# Altium footprint library COLVEN.PcbLib: 24 footprints (part 1 of 2)
Each footprint in its own frame and in the unit in brackets; x right, y up, seen from the top. Pads: shape width x height; smd on the part's side, far side on the other; paste and mask are expansions set on the pad; w line width, h text height; cw(c..) or ccw(c..) is an arc to the next point about the centre after c.
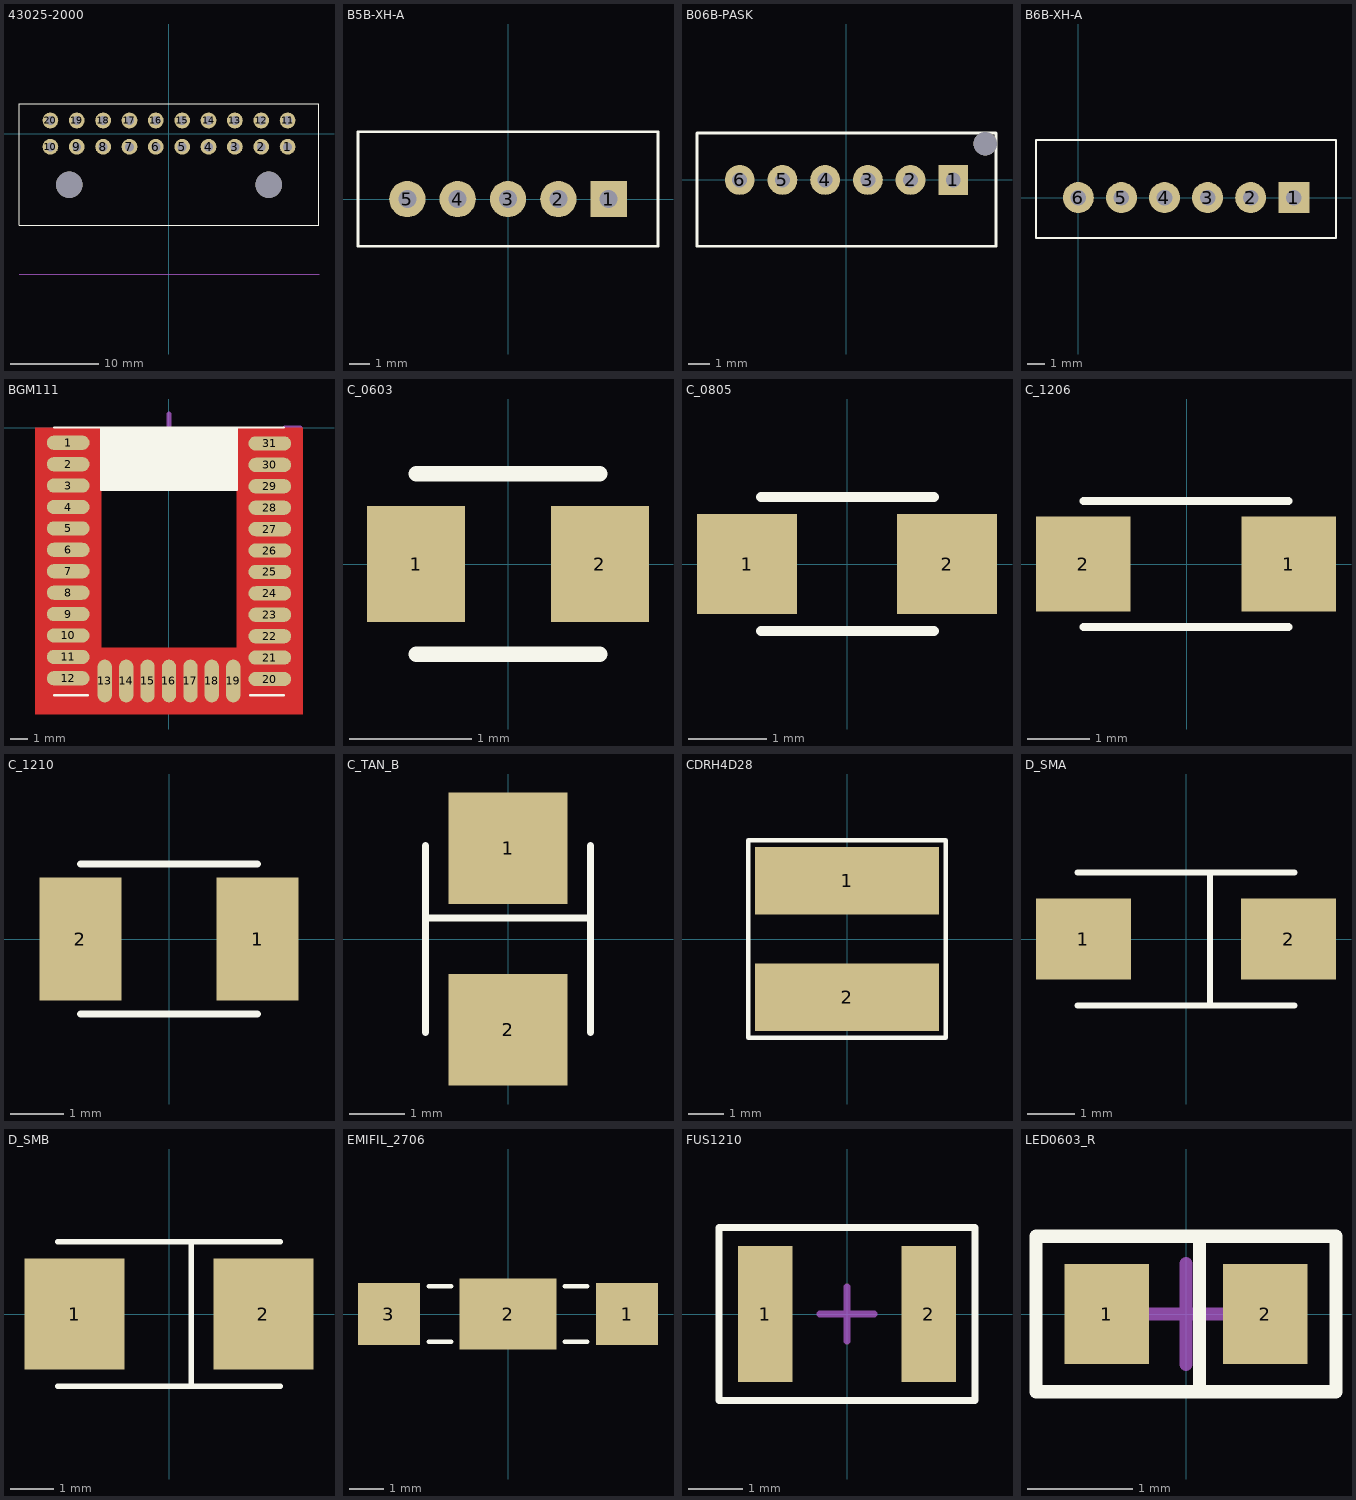
[diagram p0: the footprints below, top view; thin cyan lines are the x and y axes]

## 43025-2000 [mm]
pads (22):
  round 1.8 hole 1.02: 1(13.5,-1.5) 2(10.5,-1.5) 3(7.5,-1.5) 4(4.5,-1.5) 5(1.5,-1.5) 6(-1.5,-1.5) 7(-4.5,-1.5) 8(-7.5,-1.5) 9(-10.5,-1.5) 10(-13.5,-1.5) 11(13.5,1.5) 12(10.5,1.5) 13(7.5,1.5) 14(4.5,1.5) 15(1.5,1.5) 16(-1.5,1.5) 17(-4.5,1.5) 18(-7.5,1.5) 19(-10.5,1.5) 20(-13.5,1.5)
  round 3 hole 3 unplated: ""(-11.35,-5.82) ""(11.35,-5.82)
Top Overlay:
  lines w0.127: -17.075,-10.42 -17.075,3.38 17.075,3.38 17.075,-10.42 -17.075,-10.42
Mechanical 1:
  lines w0.127: -17.075,-15.98 17.075,-15.98
  text "MAX EDGE OF PCB" at -9.83,-15.189 h1.52
3D body "User Library-Molex43045-2000.step": height 8.83, standoff -3.12, extent -17.075,-10.42 17.075,1.82

## B5B-XH-A [mm]
pads (5):
  rect 1.8x1.8 hole 0.9: 1(5,0)
  round 1.8 hole 0.9: 2(2.5,0) 3(0,0) 4(-2.5,0) 5(-5,0)
Top Overlay:
  lines w0.127: -7.45,-2.35 -7.45,3.35 7.45,3.35 7.45,-2.35 -7.45,-2.35
3D body "User Library-jst-b4b-xh-a.step": height 7.15, standoff -3.25, extent -7.452,-2.35 7.448,3.4

## B06B-PASK [mm]
pads (7):
  rect 1.4x1.4 hole 0.7: 1(5,0)
  round 1.4 hole 0.7: 2(3,0) 3(1,0) 4(-1,0) 5(-3,0) 6(-5,0)
  round 1.1 hole 1.1 unplated: ""(6.5,1.7)
Top Overlay:
  lines w0.127: -7,-3.1 7,-3.1 7,2.2 -7,2.2 -7,-3.1
3D body "B06B-PASK-1.STEP": height 7.75, standoff -2.95, extent -7,-3.1 7,2.2

## B6B-XH-A [mm]
pads (6):
  rect 1.8x1.8 hole 0.9: 1(12.5,0)
  round 1.8 hole 0.9: 2(10,0) 3(7.5,0) 4(5,0) 5(2.5,0) 6(0,0)
Top Overlay:
  lines w0.127: -2.455,-2.35 14.95,-2.35 14.95,3.35 -2.455,3.35 -2.455,-2.35
3D body "User Library-jst-b6b-xh-a.step": height 7, standoff -3.4, extent -2.452,-2.375 14.947,3.375

## BGM111 [mm]
pads (31):
  oval 2.4x0.8 smd: 1(-5.65,-0.85) 2(-5.65,-2.05) 3(-5.65,-3.25) 4(-5.65,-4.45) 5(-5.65,-5.65) 6(-5.65,-6.85) 7(-5.65,-8.05) 8(-5.65,-9.25) 9(-5.65,-10.45) 10(-5.65,-11.65) 11(-5.65,-12.85) 12(-5.65,-14.05) 20(5.65,-14.089) 21(5.65,-12.889) 22(5.65,-11.689) 23(5.65,-10.489) 24(5.65,-9.289) 25(5.65,-8.089) 26(5.65,-6.889) 27(5.65,-5.689) 28(5.65,-4.489) 29(5.65,-3.289) 30(5.65,-2.089) 31(5.65,-0.889)
  oval 0.8x2.4 smd: 13(-3.6,-14.2) 14(-2.4,-14.2) 15(-1.2,-14.2) 16(0,-14.2) 17(1.2,-14.2) 18(2.4,-14.2) 19(3.6,-14.2)
Top Layer:
  pour cut-out: -7.5,0 -7.5,-16.05 7.5,-16.05 7.5,0 3.8,0 3.8,-12.35 -3.8,-12.35 -3.8,0
Top Overlay:
  region: -3.8,-3.5 -3.8,0 3.8,0 3.8,-3.5
  lines w0.127: -6.45,-15 -4.55,-15 ; -6.45,0 -3.8,0 ; 4.55,-15 6.45,-15 ; 6.45,0 3.8,0 ; -3.8,0 0,0 3.8,0 ; -3.8,0 -3.8,-3.5 3.8,-3.5 3.8,0
Mechanical 1:
  lines w0.254: 0,-1.905 0,0.762 ; 6.477,0 7.366,0
  text "PCB EDGE" at 6.223,-2.032 h0.91
  text "Metal Clearance / Area" at -6.477,0.254 h0.91
Multi-Layer:
  pour cut-out: -3.8,0 -3.8,-3.5 3.8,-3.5 3.8,0
3D body "User Library-BGM111-1.step": height 2.21, standoff 0, extent -6.45,-15 6.45,0

## C_0603 [mm] "Chip Resistor, 2-Leads, Body 0,6\"x0,3\" - 1,6x0,9mm, IPC High Density"
height 0.55
pads (2):
  rect 0.8x0.95 smd: 1(-0.75,0) 2(0.75,0)
Top Overlay:
  lines w0.127: -0.75,-0.737 0.75,-0.737 ; -0.75,0.737 0.75,0.737
3D body "0603.STEP": height 0.44, standoff -0.03, extent -0.8,-0.406 0.8,0.394

## C_0805 [mm]
pads (2):
  rect 1.27x1.27 smd: 1(-1.27,0) 2(1.27,0)
Top Overlay:
  lines w0.127: -1.095,-0.85 1.105,-0.85 ; -1.095,0.85 1.105,0.85
3D body "0805.STEP": height 0.39, standoff -0.02, extent -1.003,-0.622 0.997,0.628

## C_1206 [mil]
height 80
pads (2):
  rect 60x60 smd: 1(64.5,0) 2(-65.5,0)
Top Overlay:
  lines w5: -65.5,-40 64.5,-40 ; -65.5,40 64.5,40
3D body "1206.STEP": height 19.68, standoff -0.39, extent -62.5,-31.5 63.48,31.49

## C_1210 [mil]
pads (2):
  rect 60x90 smd: 1(65,0) 2(-65,0)
Top Overlay:
  lines w5: -65,-55 65,-55 ; -65,55 65,55
3D body "1206.STEP": height 19.68, standoff -0.39, extent -63.5,-8.5 62.48,54.49
3D body "1206.STEP": height 19.68, standoff -0.39, extent -63.5,-53.5 62.48,9.49

## C_TAN_B [mil]
pads (2):
  rect 85x80 smd: 1(0,65) 2(0,-65)
Top Overlay:
  lines w5: -59.06,-66.93 -59.06,66.93 ; -59.06,15 59.06,15 ; 59.06,-66.93 59.06,66.93
3D body "User Library-Solid Tantalum Chip Capacitor.step": height 83, standoff -1.4, extent -58.99,-98.8 59,98

## CDRH4D28 [mil]
pads (2):
  rect 205x75 smd: 1(0,65) 2(0,-65)
Top Overlay:
  lines w5: -110.24,-110.24 110.24,-110.24 110.24,110.24 -110.24,110.24 -110.24,-110.24
3D body "User Library-CDRH4D28.step": height 114.37, standoff 0, extent -96.46,-96.46 96.46,96.46

## D_SMA [mm]
pads (2):
  rect 2x1.7 smd: 1(-2.159,0) 2(2.159,0)
Top Overlay:
  lines w0.127: -2.286,-1.397 2.286,-1.397 ; -2.286,1.397 2.286,1.397 ; 0.508,-1.397 0.508,1.397
3D body "SMA.step": height 2.4, standoff 0, extent -2.587,-1.305 2.613,1.295

## D_SMB [mil]
pads (2):
  rect 90x100 smd: 1(-85,0) 2(85,0)
Top Overlay:
  lines w5: -100,-65 100,-65 ; -100,65 100,65 ; 20,-65 20,65
3D body "SMB.step": height 90.75, standoff 0, extent -106.06,-70.87 106.54,70.87

## EMIFIL_2706 [mil]
height 98.43
pads (3):
  rect 70x70 smd: 1(135,0) 3(-135,0)
  rect 110x80 smd: 2(0,0)
Top Overlay:
  lines w5: -90,-31.5 -64.41,-31.5 ; -90,31.5 -64.41,31.5 ; 64.41,-31.5 90,-31.5 ; 64.41,31.5 90,31.5
3D body "User Library-NFE61P series.step": height 62.99, standoff 0, extent -134,-31.5 133.72,31.5

## FUS1210 [mm]
height 0.7
pads (2):
  rect 1x2.5 smd: 1(-1.5,0) 2(1.5,0)
Top Overlay:
  lines w0.127: -2.348,-1.586 2.348,-1.586 2.348,1.586 -2.348,1.586 -2.348,-1.586
Mechanical 15:
  lines w0.127: -0.5,0 0.5,0 ; 0,-0.5 0,0.5
3D body "User Library-Fuse1210.step": height 0.67, standoff 0, extent -1.607,-1.27 1.607,1.305

## LED0603_R [mm]
height 0.55
pads (2):
  rect 0.8x0.95 smd: 1(-0.75,0) 2(0.75,0)
Top Overlay:
  lines w0.127: 0.128,-0.737 0.128,0.737 ; -1.422,-0.737 1.422,-0.737 1.422,0.737 -1.422,0.737 -1.422,-0.737
Mechanical 15:
  lines w0.127: -0.475,0 0.475,0 ; 0,-0.475 0,0.475
3D body "User Library-led_0603.STEP": height 0.6, standoff 0, extent -0.81,-0.41 0.81,0.39